# EAGLE library part A5970D (library A5970D)
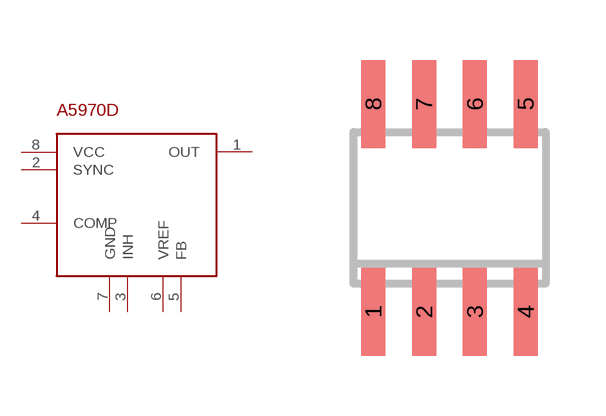
[diagram p0: symbol with the pads of SO8; footprint SO8]

Designator prefix -

## A5970D  [SO8]
1  OUT
2  SYNC
3  INH
4  COMP
5  FB
6  VREF
7  GND
8  VCC

## Footprint SO8 (pad centres in mm)
According to: http://www.ti.com/lit/ml/msoi002j/msoi002j.pdf
smd 0.6 x 2.2: 1 -1.905,-2.6; 2 -0.635,-2.6; 3 0.635,-2.6; 4 1.905,-2.6; 5 1.905,2.6; 6 0.635,2.6; 7 -0.635,2.6; 8 -1.905,2.6